# EAGLE library part ADG849YKSZ-500RL7 (library ADG849YKSZ-500RL7)
SPDT/2:1 Mux Source: Datasheet <http://componentsearchengine.com/Datasheets/1/ADG849YKSZ-500RL7.pdf>
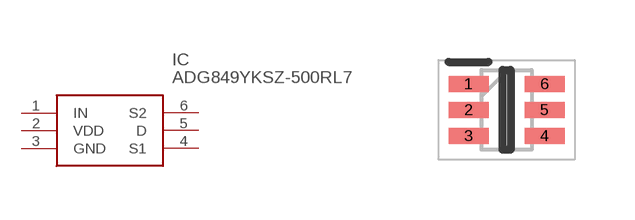
[diagram p0: symbol with the pads of SOT65P210X110-6N; footprint SOT65P210X110-6N]

Designator prefix IC

## ADG849YKSZ-500RL7 (Description: SPDT/2:1 Mux; Height: 1.1mm; Manufacturer_Name: Analog Devices; Manufacturer_Part_Number: ADG849YKSZ-500RL7; Mouser_Part_Number: 584-ADG849YKSZ-500R7; Mouser_Price-Stock: https://www.mouser.co.uk/ProductDetail/Analog-Devices/ADG849YKSZ-500RL7?qs=BpaRKvA4VqH8qBqwWySUcg%3D%3D)  [SOT65P210X110-6N]
1  IN
2  VDD
3  GND
4  S1
5  D
6  S2

## Footprint SOT65P210X110-6N (pad centres in mm)
KS-6_ SC70
smd 1 x 0.4: 1 -0.95,0.65; 2 -0.95,0; 3 -0.95,-0.65; 4 0.95,-0.65; 5 0.95,0; 6 0.95,0.65